# Altium schematic symbol library DMP4025LSD13.SchLib: 1 symbol
Pins are listed as number, name and electrical type; pins without a type are passive.

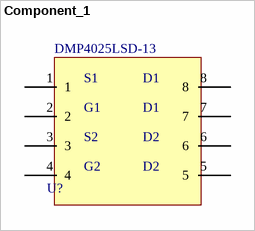
[diagram p0: symbol Component_1]

## Component_1
designator U?, comment DMP4025LSD-13
footprint SOIC127P600X135-8N (SOIC, 8-Leads, Body 4.90x3.90mm, Pitch 1.27mm, IPC Medium Density)
pins: 1, 2, 3, 4, 5, 6, 7, 8
text: S1; D1; G1; S2; D2; G2